# Altium footprint library 2020-11-22_18-54-36.PcbLib: 1 footprints
Each footprint in its own frame and in the unit in brackets; x right, y up, seen from the top. Pads: shape width x height; smd on the part's side, far side on the other; paste and mask are expansions set on the pad; w line width, h text height; cw(c..) or ccw(c..) is an arc to the next point about the centre after c.
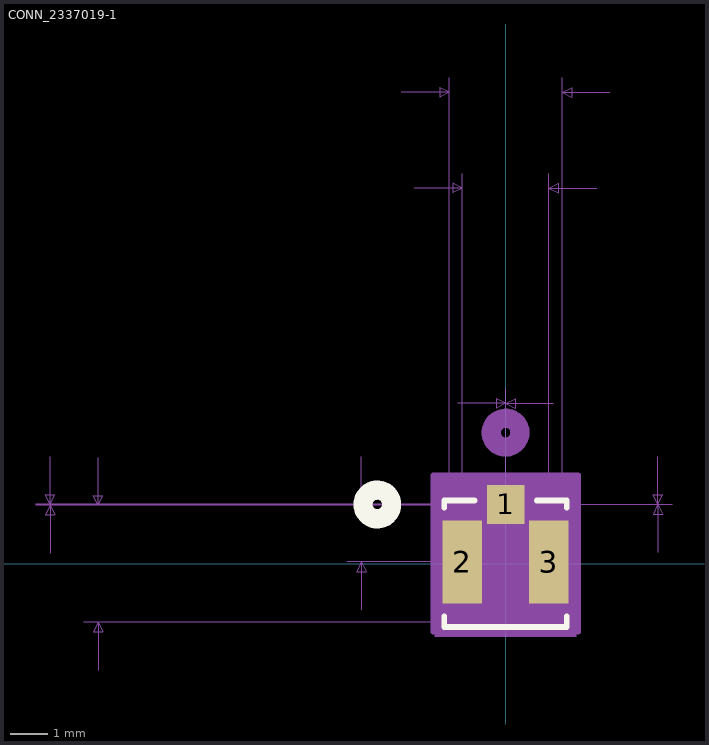
[diagram p0: the footprint, top view; thin cyan lines are the x and y axes]

## CONN_2337019-1 [mil]
pads (3):
  rect 39x41 smd: 1(0,61.98)
  rect 41x87 smd paste+0 mask+0: 2(-45.18,1.94) 3(45.18,1.94)
Top Overlay:
  circle w20: c-134,61.98 r15
  lines w6: -64,-54.66 -64,-66 64,-66 64,-54.66 ; -64,58.54 -64,66 -32.6,66 ; 32.6,66 64,66 64,58.54
Bottom Overlay:
  circle w20: c-134,61.98 r15
Mechanical 5:
  region: -74,76 74,76 74,-76 -74,-76
Mechanical 7:
  lines w1: -490.68,61 -59,61 ; -490.68,61.98 0,61.98 ; -475.68,11 -475.68,61 ; -475.68,111.98 -475.68,61.98 ; -440.68,-61 -59,-61 ; -440.68,61 -59,61 ; -425.68,-111 -425.68,-61 ; -425.68,111 -425.68,61 ; -165.68,1.94 45.18,1.94 45.18,407.48 ; -165.68,61.98 0,61.98 ; -150.68,-48.06 -150.68,1.94 ; -150.68,111.98 -150.68,61.98 ; -109,492.48 -59,492.48 ; -95.18,392.48 -45.18,392.48 ; -59,507.48 -59,61 ; -50,167.48 0,167.48 ; -45.18,1.94 -45.18,407.48 ; 50,167.48 0,167.48 ; 59,61 59,507.48 ; 95.18,392.48 45.18,392.48 ; 109,492.48 59,492.48 ; 159,11.98 159,61.98 ; 159,111.98 159,61.98 ; -475.68,61 -480.68,51 -470.68,51 -475.68,61 ; -475.68,61.98 -480.68,71.98 -470.68,71.98 -475.68,61.98 ; -425.68,-61 -430.68,-71 -420.68,-71 -425.68,-61 ; -425.68,61 -430.68,71 -420.68,71 -425.68,61 ; -150.68,1.94 -155.68,-8.06 -145.68,-8.06 -150.68,1.94 ; -150.68,61.98 -155.68,71.98 -145.68,71.98 -150.68,61.98 ; -59,492.48 -69,497.48 -69,487.48 -59,492.48 ; -45.18,392.48 -55.18,397.48 -55.18,387.48 -45.18,392.48 ; 0,61.98 0,182.48 0,61.98 ; 0,61.98 174,61.98 0,61.98 ; 0,167.48 -10,172.48 -10,162.48 0,167.48 ; 0,167.48 10,172.48 10,162.48 0,167.48 ; 45.18,392.48 55.18,397.48 55.18,387.48 45.18,392.48 ; 59,492.48 69,497.48 69,487.48 59,492.48 ; 159,61.98 154,71.98 164,71.98 159,61.98 ; 159,61.98 154,51.98 164,51.98 159,61.98
  text "Default Padstyle: RX39Y41D0T" at -350,-221 h50
  text "1st Mtg Padstyle: RX41Y87D0T" at -350,-296 h50
  text "2nd Mtg Padstyle: EX70Y70D70P" at -362.5,-371 h50
  text "3rd Mtg Padstyle: EX70Y70D70P" at -362.5,-446 h50
  text "Left Mtg Padstyle: EX60Y60D30P" at -375,-521 h50
  text "Right Mtg Padstyle: EX60Y60D30P" at -387.5,-596 h50
  text "Alt Padstyle 1: OX60Y90D30P" at -337.5,-671 h50
  text "Alt Padstyle 2: OX90Y60D30P" at -337.5,-746 h50
  text "0in/0mm" at -43.75,187.48 h25
  text "0.09in/2.295mm" at -87.5,412.48 h25
  text "0.118in/2.997mm" at -93.75,512.48 h25
  text "0in/0mm" at 179,49.48 h25
  text "-0.06in/-1.525mm" at -370.68,19.46 h25
  text "-0.001in/-0.025mm" at -708.18,48.99 h25
  text "0.122in/3.099mm" at -633.18,-12.5 h25
Mechanical 13:
  circle w20: c0,136.98 r15
  lines w1: -59,-61 59,-61 59,61 -59,61 -59,-61
Mechanical 15:
  region: 75.68,92.48 -75.68,92.48 -75.68,-71 75.68,-71
  lines w6: -75.68,-71 -75.68,92.48 75.68,92.48 75.68,-71 -75.68,-71
3D body: height 10, standoff 0, extent 0,0 10,10